# Altium footprint library SHDR6W100P0X508_1X6_4064X850X1240P.PcbLib: 1 footprints
Each footprint in its own frame and in the unit in brackets; x right, y up, seen from the top. Pads: shape width x height; smd on the part's side, far side on the other; paste and mask are expansions set on the pad; w line width, h text height; cw(c..) or ccw(c..) is an arc to the next point about the centre after c.
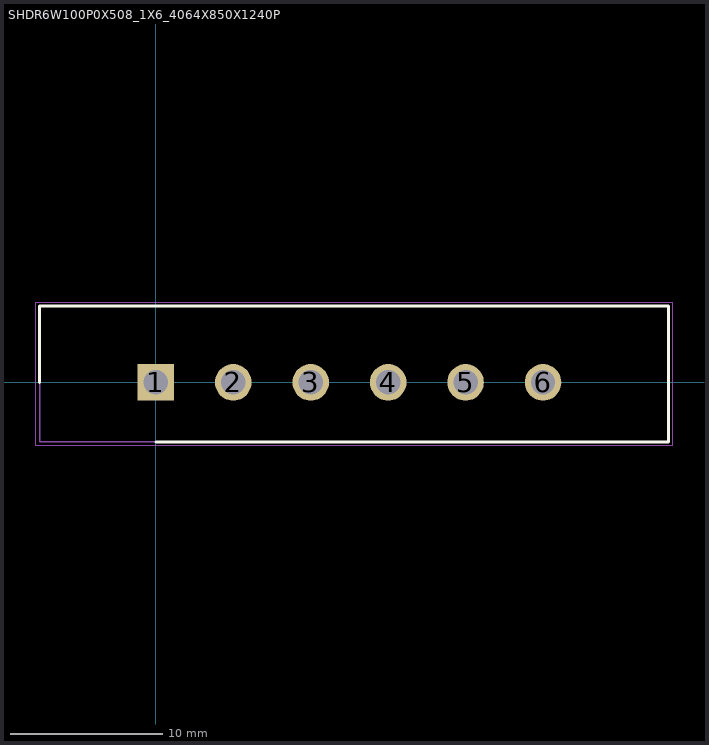
[diagram p0: the footprint, top view; thin cyan lines are the x and y axes]

## SHDR6W100P0X508_1X6_4064X850X1240P [mm]
pads (6):
  rect 2.4x2.4 / inner round 2.4 / far side rect 2.4x2.4 hole 1.6: 1(0,0)
  round 2.4 hole 1.6: 2(5.08,0) 3(10.16,0) 4(15.24,0) 5(20.32,0) 6(25.4,0)
Top Overlay:
  lines w0.2: -7.62,0 -7.62,5 33.62,5 33.62,-3.9 0,-3.9
Mechanical 15:
  lines w0.1: -7.62,-3.9 -7.62,5 33.62,5 33.62,-3.9 -7.62,-3.9
Mechanical 20:
  lines w0.05: -7.87,-4.15 -7.87,5.25 33.87,5.25 33.87,-4.15 -7.87,-4.15